# EAGLE library part AVR_ISP (library #PaJa_31)
AVR ISP konektor (dle standardu)
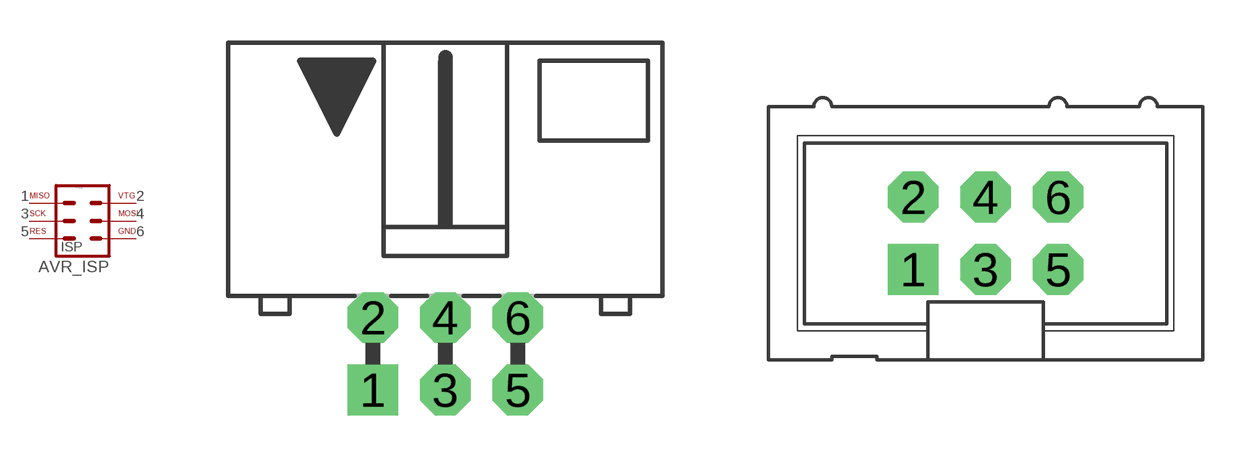
[diagram p63: symbol with the pads of MLW06A; footprints MLW06A, MLW06G]

Designator prefix ISP

## AVR_ISP_90°  [MLW06A]
1  1  pas
2  2  pas
3  3  pas
4  4  pas
5  5  pas
6  6  pas

## AVR_ISP  [MLW06G]
Pads as for MLW06A

## Footprint MLW06A (pad centres in mm)
HARTING
drill 0.914 pad 1.778 square: 1 -2.54,-1.27
drill 0.914 pad 1.778 octagon: 2 -2.54,1.27; 3 0,-1.27; 4 0,1.27; 5 2.54,-1.27; 6 2.54,1.27

## Footprint MLW06G (pad centres in mm)
drill 0.914 pad 1.778 square: 1 -2.54,-1.27
drill 0.914 pad 1.778 octagon: 2 -2.54,1.27; 3 0,-1.27; 4 0,1.27; 5 2.54,-1.27; 6 2.54,1.27